# Altium footprint library MiniCircuits.PcbLib: 49 footprints (part 4 of 4)
Each footprint in its own frame and in the unit in brackets; x right, y up, seen from the top. Pads: shape width x height; smd on the part's side, far side on the other; paste and mask are expansions set on the pad; w line width, h text height; cw(c..) or ccw(c..) is an arc to the next point about the centre after c.
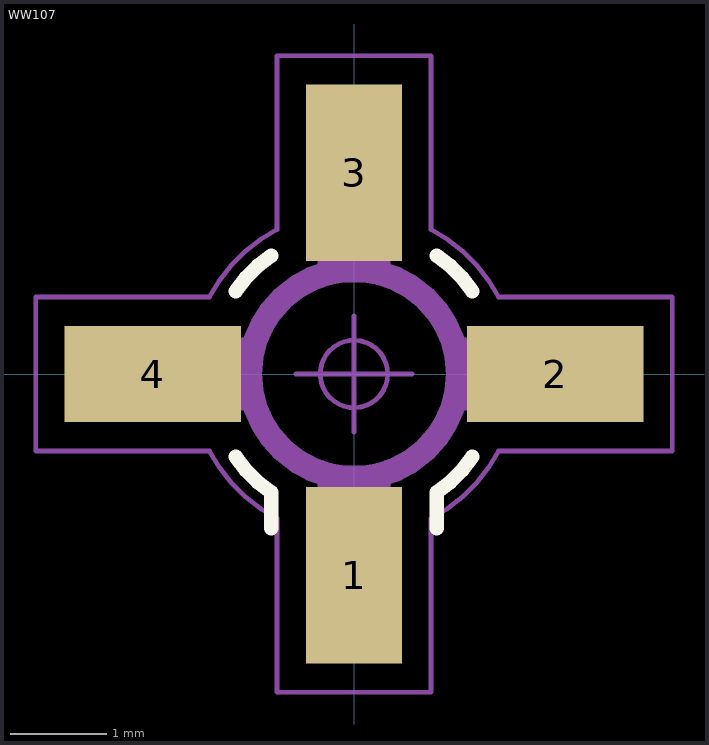
[diagram p3: the footprint, top view; thin cyan lines are the x and y axes]

## WW107 [mm] "Mini-Circuits case WW107"
height 1.52
pads (4):
  rect 1x1.83 smd: 1(0,-2.085) 3(0,2.085)
  rect 1.83x1 smd: 2(2.085,0) 4(-2.085,0)
Top Overlay:
  lines w0.15: -1.229,-0.86 ccw(c0,0) -0.86,-1.229 -0.86,-1.6 ; -1.229,0.86 cw(c0,0) -0.86,1.229 ; 0.86,-1.6 0.86,-1.229 ccw(c0,0) 1.229,-0.86 ; 0.86,1.229 cw(c0,0) 1.229,0.86
Top Assembly:
  circle w0.25: c0,0 r1.08
  lines w0.25: -1.049,-0.255 -2.34,-0.255 -2.34,0.255 -1.049,0.255 ; -0.255,-1.049 -0.255,-2.177 -0.092,-2.34 0.255,-2.34 0.255,-1.049 ; -0.255,1.049 -0.255,2.34 0.255,2.34 0.255,1.049 ; 1.049,-0.255 2.34,-0.255 2.34,0.255 1.049,0.255
  text ".Designator" at 0.827,0.976 h1.5
Top Courtyard:
  circle w0.05: c0,0 r0.35
  lines w0.05: -0.6,0 0.6,0 ; 0,-0.6 0,0.6 ; -3.3,-0.8 -1.5,-0.8 ccw(c0,0) -0.8,-1.5 -0.8,-3.3 0.8,-3.3 0.8,-1.5 ccw(c0,0) 1.5,-0.8 3.3,-0.8 3.3,0.8 1.5,0.8 ccw(c0,0) 0.8,1.5 0.8,3.3 -0.8,3.3 -0.8,1.5 ccw(c0,0) -1.5,0.8 -3.3,0.8 -3.3,-0.8
3D body "CASE WW107.STEP": height 1.52, standoff 0, extent -2.54,-2.54 2.54,2.54